# Altium footprint library Diodes.PcbLib: 38 footprints (part 3 of 3)
Each footprint in its own frame and in the unit in brackets; x right, y up, seen from the top. Pads: shape width x height; smd on the part's side, far side on the other; paste and mask are expansions set on the pad; w line width, h text height; cw(c..) or ccw(c..) is an arc to the next point about the centre after c.
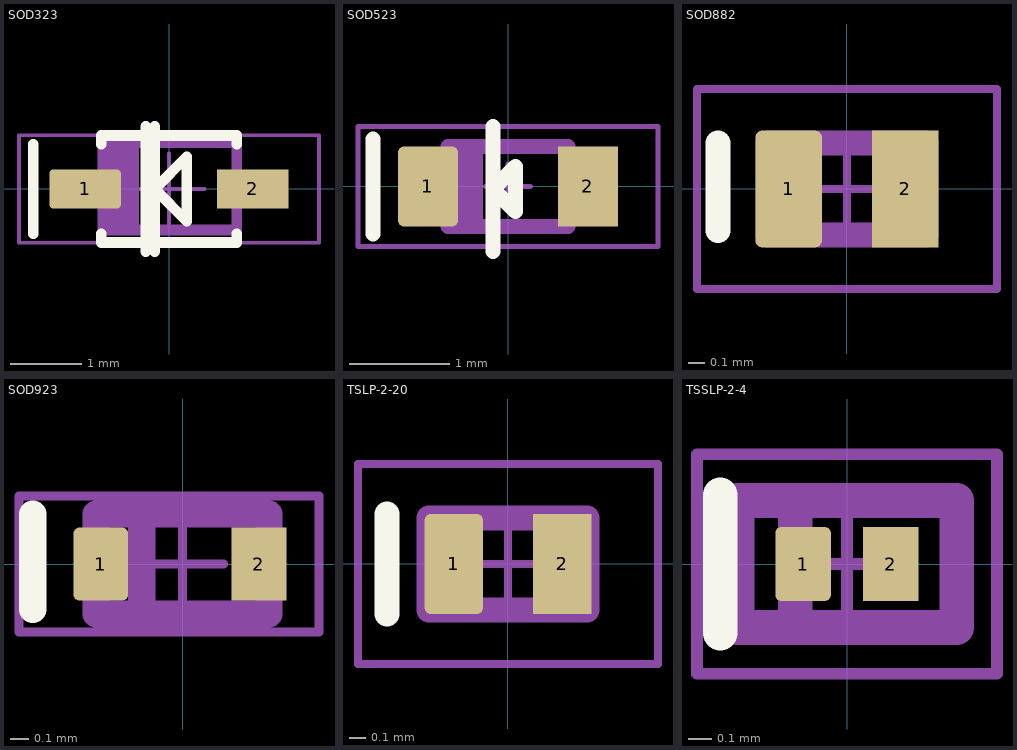
[diagram p2: the footprints below, top view; thin cyan lines are the x and y axes]

## SOD323 [mm] "SOD-323/SC-76; 2 Leads; Body 1.7 x 1.3 mm, (LxW)"
height 1.1
pads (2):
  rrect20% 1x0.55 smd: 1(-1.175,0)
  rect 1x0.55 smd: 2(1.175,0)
Top Overlay:
  lines w0.15: -1.9,-0.625 -1.9,0.625 ; -0.95,-0.625 -0.95,-0.75 0.95,-0.75 0.95,-0.625 ; -0.95,0.625 -0.95,0.75 0.95,0.75 0.95,0.625 ; -0.325,-0.875 -0.325,0.875 ; -0.2,-0.875 -0.2,0.875 ; -0.2,0 0.25,-0.45 0.25,0.45 -0.2,0
TopAssy 13:
  region: -0.425,-0.575 -0.9,-0.575 -0.9,0.65 -0.425,0.65
  lines w0.15: -0.925,-0.15 -1.275,-0.15 -1.275,0.15 -0.925,0.15 ; 0.95,-0.15 1.3,-0.15 1.3,0.15 0.95,0.15 ; -0.925,-0.575 -0.925,0.65 0.95,0.65 0.95,-0.575 -0.925,-0.575
CourtTop 15:
  lines w0.05: -0.5,0 0.5,0 ; 0,-0.5 0,0.5 ; -2.1,-0.75 2.1,-0.75 2.1,0.75 -2.1,0.75 -2.1,-0.75
3D body "User Library-SOD323.step": height 1.1, standoff 0, extent -1.35,-0.625 1.35,0.625

## SOD523 [mm]
pads (2):
  rrect20% 0.6x0.8 smd: 1(-0.8,0)
  rect 0.6x0.8 smd: 2(0.8,0)
Top Overlay:
  lines w0.15: -1.35,-0.475 -1.35,0.475 ; -0.15,-0.65 -0.15,0.6 ; -0.15,-0.025 0.075,-0.25 0.075,0.2 -0.15,-0.025
TopAssy 13:
  region: -0.25,-0.4 -0.6,-0.4 -0.6,0.4 -0.25,0.4
  lines w0.15: -0.6,-0.15 -0.8,-0.15 -0.8,0.15 -0.6,0.15 ; 0.6,-0.15 0.8,-0.15 0.8,0.15 0.6,0.15 ; -0.6,-0.4 -0.6,0.4 0.6,0.4 0.6,-0.4 -0.6,-0.4
CourtTop 15:
  lines w0.05: -0.225,0 0.225,0 ; 0,-0.225 0,0.225 ; -1.5,-0.6 -1.5,0.6 1.5,0.6 1.5,-0.6 -1.5,-0.6
3D body "User Library-SOD523-1.step": height 0.7, standoff 0, extent -0.8,-0.423 0.8,0.374

## SOD882 [mm]
pads (2):
  rrect20% 0.4x0.7 smd: 1(-0.35,0)
  rect 0.4x0.7 smd: 2(0.35,0)
Top Overlay:
  lines w0.15: -0.775,-0.25 -0.775,0.275
TopAssy 13:
  lines w0.15: -0.225,-0.275 -0.225,0.275 ; -0.475,-0.275 -0.475,0.275 0.475,0.275 0.475,-0.275 -0.475,-0.275
CourtTop 15:
  lines w0.05: -0.225,0 0.225,0 ; 0,-0.225 0,0.225 ; -0.9,-0.6 -0.9,0.6 0.9,0.6 0.9,-0.6 -0.9,-0.6
3D body "User Library-SOD882-1.step": height 0.48, standoff -0.03, extent -0.492,-0.293 0.493,0.293

## SOD923 [mm]
pads (2):
  rrect20% 0.3x0.4 smd: 1(-0.45,0)
  rect 0.3x0.4 smd: 2(0.42,0)
Top Overlay:
  lines w0.15: -0.825,-0.25 -0.825,0.275
TopAssy 13:
  lines w0.15: -0.225,-0.275 -0.225,0.275 ; -0.475,-0.275 0.475,-0.275 0.475,0.275 -0.475,0.275 -0.475,-0.275
CourtTop 15:
  lines w0.05: -0.225,0 0.225,0 ; 0,-0.225 0,0.225 ; -0.9,-0.375 0.75,-0.375 0.75,0.375 -0.9,0.375 -0.9,-0.375
3D body "User Library-DIODE_SOD-923.step": height 0.43, standoff 0, extent -0.525,-0.325 0.525,0.325

## TSLP-2-20 [mm]
pads (2):
  rrect20% 0.35x0.6 smd: 1(-0.325,0)
  rect 0.35x0.6 smd: 2(0.325,0)
Top Overlay:
  lines w0.15: -0.725,-0.3 -0.725,0.3
TopAssy 13:
  lines w0.15: -0.225,-0.275 -0.225,0.275 ; -0.475,-0.275 0.475,-0.275 0.475,0.275 -0.475,0.275 -0.475,-0.275
CourtTop 15:
  lines w0.05: -0.225,0 0.225,0 ; 0,-0.225 0,0.225 ; -0.9,-0.6 0.9,-0.6 0.9,0.6 -0.9,0.6 -0.9,-0.6
3D body "User Library-TSLP-2-20.STEP": height 0.32, standoff 0.01, extent -0.5,-0.3 0.5,0.3

## TSSLP-2-4 [mm]
pads (2):
  rrect20% 0.24x0.32 smd: 1(-0.19,0)
  rect 0.24x0.32 smd: 2(0.19,0)
Top Overlay:
  lines w0.15: -0.55,-0.3 -0.55,0.3
TopAssy 13:
  lines w0.15: -0.225,-0.275 -0.225,0.275 ; -0.475,-0.275 0.475,-0.275 0.475,0.275 -0.475,0.275 -0.475,-0.275
CourtTop 15:
  lines w0.05: -0.225,0 0.225,0 ; 0,-0.225 0,0.225 ; -0.65,-0.475 0.65,-0.475 0.65,0.475 -0.65,0.475 -0.65,-0.475
3D body "User Library-SOD882-1.step": height 0.48, standoff -0.03, extent -0.492,-0.293 0.493,0.293